# Altium integrated library Res-SMD_V2.IntLib: 2369 symbols (part 17 of 18)
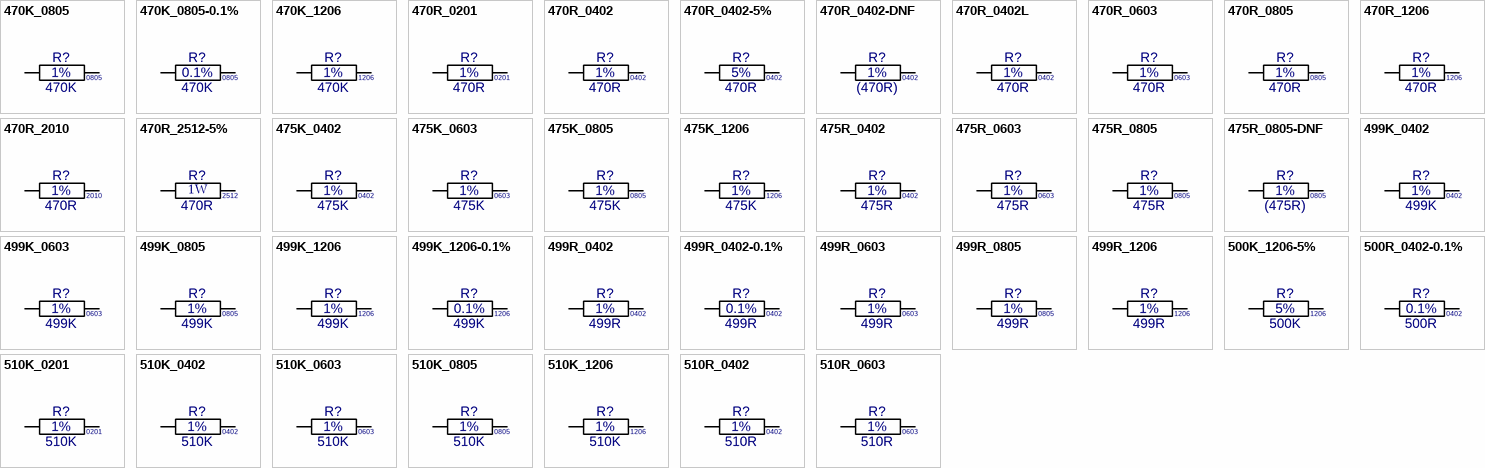
[diagram p75: symbols 470K_0805 to 510R_0603]

## 475R_0805
designator R?, comment value 475R  Tol: 1%  Text1: 0805  (hidden comment: 475R_R0805_1%)
Resistor Chip SMD; Manufacturer: Various; Part Number: 475R 0805 1%; Watt: 125mW; Package: RESC0805X65N; EDM-PN: *; Text2: *; Reutech PN: *; SAAB PN: *; DCE Part No: *
footprint RESC0805X65N (Chip Resistor, 0805, 2-Leads, Body 2.0x1.3mm, IPC Medium Density)
pins: 1, 2

## 475R_0805-DNF
designator R?, comment value (475R)  Tol: 1%  Text1: 0805  (hidden comment: 475R_R0805_1%-DNF)
Resistor Chip SMD - Do not Fit; Manufacturer: Various; Part Number: DNF - 475R 0805 1%; Watt: 125mW; Package: RESC0805X65N; EDM-PN: *; Text2: *; Reutech PN: *; SAAB PN: *; DCE Part No: *
footprint RESC0805X65N (Chip Resistor, 0805, 2-Leads, Body 2.0x1.3mm, IPC Medium Density)
pins: 1, 2

## 499K_0402
designator R?, comment value 499K  Tol: 1%  Text1: 0402  (hidden comment: 499K_R0402_1%)
Resistor Chip SMD; Manufacturer: Various; Part Number: 499K 0402 1%; Watt: 63mW; Package: RESC0402X40N; EDM-PN: *; Text2: *; Reutech PN: *; SAAB PN: *; DCE Part No: *
footprint RESC0402X40N (Chip Resistor, 0402, 2-Leads, Body 1.1x0.5mm, IPC Medium Density)
pins: 1, 2

## 499K_0603
designator R?, comment value 499K  Tol: 1%  Text1: 0603  (hidden comment: 499K_R0603_1%)
Resistor Chip SMD; Manufacturer: Various; Part Number: 499K 0603 1%; Watt: 100mW; Package: RESC0603X60N; EDM-PN: *; Text2: *; Reutech PN: *; SAAB PN: *; DCE Part No: *
footprint RESC0603X60N (Chip Resistor, 0603, 2-Leads, Body 1.6x0.8mm, IPC Medium Density)
pins: 1, 2

## 499K_0805
designator R?, comment value 499K  Tol: 1%  Text1: 0805  (hidden comment: 499K_R0805_1%)
Resistor Chip SMD; Manufacturer: Various; Part Number: 499K 0805 1%; Watt: 125mW; EDM-PN: RES497; Package: RESC0805X65N; Text2: *; Reutech PN: *; SAAB PN: *; DCE Part No: *
footprint RESC0805X65N (Chip Resistor, 0805, 2-Leads, Body 2.0x1.3mm, IPC Medium Density)
pins: 1, 2

## 499K_1206
designator R?, comment value 499K  Tol: 1%  Text1: 1206  (hidden comment: 499K_R1206 1%)
Resistor Chip SMD; Manufacturer: Various; Part Number: 499K 1206 1%; Watt: 250mW; Package: RESC1206X71N; EDM-PN: *; Text2: *; Reutech PN: *; SAAB PN: *; DCE Part No: *
footprint RESC1206X71N (Chip Resistor, 1206, 2-Leads, Body 3.2x1.6mm, IPC Medium Density)
pins: 1, 2

## 499K_1206-0.1%
designator R?, comment value 499K  Tol: 0.1%  Text1: 1206  (hidden comment: 499K_R1206_0.1%)
Resistor Chip SMD; Manufacturer: Various; Part Number: 499K 1206 0.1%; Watt: 250mW; Package: RESC1206X71N; EDM-PN: *; Text2: *; Reutech PN: *; SAAB PN: *; DCE Part No: *
footprint RESC1206X71N (Chip Resistor, 1206, 2-Leads, Body 3.2x1.6mm, IPC Medium Density)
pins: 1, 2

## 499R_0402
designator R?, comment value 499R  Tol: 1%  Text1: 0402  (hidden comment: 499R_R0402_1%)
Resistor Chip SMD; Manufacturer: Various; Part Number: 499R 0402 1%; Watt: 63mW; EDM-PN: RES1082; Package: RESC0402X40N; Text2: *; Reutech PN: *; SAAB PN: *; DCE Part No: *
footprint RESC0402X40N (Chip Resistor, 0402, 2-Leads, Body 1.1x0.5mm, IPC Medium Density)
pins: 1, 2

## 499R_0402-0.1%
designator R?, comment value 499R  Tol: 0.1%  Text1: 0402  (hidden comment: 499R_R0402_0.1%)
Resistor Chip SMD; Manufacturer: Various; Part Number: 499R 0402 0.1%; Watt: 63mW; Package: RESC0402X40N; EDM-PN: *; Text2: *; Reutech PN: *; SAAB PN: *; DCE Part No: *
footprint RESC0402X40N (Chip Resistor, 0402, 2-Leads, Body 1.1x0.5mm, IPC Medium Density)
pins: 1, 2

## 499R_0603
designator R?, comment value 499R  Tol: 1%  Text1: 0603  (hidden comment: 499R_R0603_1%)
Resistor Chip SMD; Manufacturer: Various; Part Number: 499R 0603 1%; Watt: 100mW; Package: RESC0603X60N; EDM-PN: *; Text2: *; Reutech PN: *; SAAB PN: *; DCE Part No: *
footprint RESC0603X60N (Chip Resistor, 0603, 2-Leads, Body 1.6x0.8mm, IPC Medium Density)
pins: 1, 2

## 499R_0805
designator R?, comment value 499R  Tol: 1%  Text1: 0805  (hidden comment: 499R_R0805_1%)
Resistor Chip SMD; Manufacturer: Various; Part Number: 499R 0805 1%; Watt: 125mW; Package: RESC0805X65N; EDM-PN: *; Text2: *; Reutech PN: *; SAAB PN: *; DCE Part No: *
footprint RESC0805X65N (Chip Resistor, 0805, 2-Leads, Body 2.0x1.3mm, IPC Medium Density)
pins: 1, 2

## 499R_1206
designator R?, comment value 499R  Tol: 1%  Text1: 1206  (hidden comment: 499R_R1206_1%)
Resistor Chip SMD; Manufacturer: Various; Part Number: 499R 1206 1%; Watt: 250mW; Package: RESC1206X71N; EDM-PN: *; Text2: *; Reutech PN: *; SAAB PN: *; DCE Part No: *
footprint RESC1206X71N (Chip Resistor, 1206, 2-Leads, Body 3.2x1.6mm, IPC Medium Density)
pins: 1, 2

## 500K_1206-5%
designator R?, comment value 500K  Tol: 5%  Text1: 1206  (hidden comment: 500K_R1206_5%)
Resistor Chip SMD; Manufacturer: Various; Part Number: 500K 1206 5%; Watt: 330mW; Package: RESC1206X71N; EDM-PN: *; Text2: *; Reutech PN: *; SAAB PN: *; DCE Part No: *
footprint RESC1206X71N (Chip Resistor, 1206, 2-Leads, Body 3.2x1.6mm, IPC Medium Density)
pins: 1, 2

## 500R_0402-0.1%
designator R?, comment value 500R  Tol: 0.1%  Text1: 0402  (hidden comment: 500R_R0402_0.1%)
Resistor Chip SMD; Manufacturer: Various; Part Number: 500R 0402 0.1%; Watt: 63mW; Package: RESC0402X40N; EDM-PN: *; Text2: *; Reutech PN: *; SAAB PN: *; DCE Part No: *
footprint RESC0402X40N (Chip Resistor, 0402, 2-Leads, Body 1.1x0.5mm, IPC Medium Density)
pins: 1, 2

## 510K_0201
designator R?, comment value 510K  Tol: 1%  Text1: 0201  (hidden comment: 510K_R0201_1%)
Resistor Chip SMD; Manufacturer: Various; Part Number: 510K 0201 1%; Watt: 31mW; Package: RESC0201X33N; EDM-PN: *; Text2: *; Reutech PN: *; SAAB PN: *; DCE Part No: *
footprint RESC0201X33N (Chip Resistor, 0201, 2-Leads, Body 0.6x0.3mm, IPC Medium Density)
pins: 1, 2

## 510K_0402
designator R?, comment value 510K  Tol: 1%  Text1: 0402  (hidden comment: 510K_R0402_1%)
Resistor Chip SMD; Manufacturer: Various; Part Number: 510K 0402 1%; Watt: 63mW; Package: RESC0402X40N; EDM-PN: *; Text2: *; Reutech PN: *; SAAB PN: *; DCE Part No: *
footprint RESC0402X40N (Chip Resistor, 0402, 2-Leads, Body 1.1x0.5mm, IPC Medium Density)
pins: 1, 2

## 510K_0603
designator R?, comment value 510K  Tol: 1%  Text1: 0603  (hidden comment: 510K_R0603_1%)
Resistor Chip SMD; Manufacturer: Various; Part Number: 510K 0603 1%; Watt: 100mW; Package: RESC0603X60N; EDM-PN: *; Text2: *; Reutech PN: *; SAAB PN: *; DCE Part No: *
footprint RESC0603X60N (Chip Resistor, 0603, 2-Leads, Body 1.6x0.8mm, IPC Medium Density)
pins: 1, 2

## 510K_0805
designator R?, comment value 510K  Tol: 1%  Text1: 0805  (hidden comment: 510K_R0805_1%)
Resistor Chip SMD; Manufacturer: Various; Part Number: 510K 0805 1%; Watt: 125mW; Package: RESC0805X65N; EDM-PN: *; Text2: *; Reutech PN: *; SAAB PN: *; DCE Part No: *
footprint RESC0805X65N (Chip Resistor, 0805, 2-Leads, Body 2.0x1.3mm, IPC Medium Density)
pins: 1, 2

## 510K_1206
designator R?, comment value 510K  Tol: 1%  Text1: 1206  (hidden comment: 510K_R1206_1%)
Resistor Chip SMD; Manufacturer: Various; Part Number: 510K 1206 1%; Watt: 250mW; Package: RESC1206X71N; EDM-PN: *; Text2: *; Reutech PN: *; SAAB PN: *; DCE Part No: *
footprint RESC1206X71N (Chip Resistor, 1206, 2-Leads, Body 3.2x1.6mm, IPC Medium Density)
pins: 1, 2

## 510R_0402
designator R?, comment value 510R  Tol: 1%  Text1: 0402  (hidden comment: 510R_R0402_1%)
Resistor Chip SMD; Manufacturer: Various; Part Number: 510R 0402 1%; Watt: 63mW; EDM-PN: RES1498; Package: RESC0402X40N; Text2: *; Reutech PN: *; SAAB PN: *; DCE Part No: *
footprint RESC0402X40N (Chip Resistor, 0402, 2-Leads, Body 1.1x0.5mm, IPC Medium Density)
pins: 1, 2

## 510R_0603
designator R?, comment value 510R  Tol: 1%  Text1: 0603  (hidden comment: 510R_R0603_1%)
Resistor Chip SMD; Manufacturer: Various; Part Number: 510R 0603 1%; Watt: 100mW; EDM-PN: RES678; Package: RESC0603X60N; Text2: *; Reutech PN: 5905-93-5100; SAAB PN: *; DCE Part No: *
footprint RESC0603X60N (Chip Resistor, 0603, 2-Leads, Body 1.6x0.8mm, IPC Medium Density)
pins: 1, 2

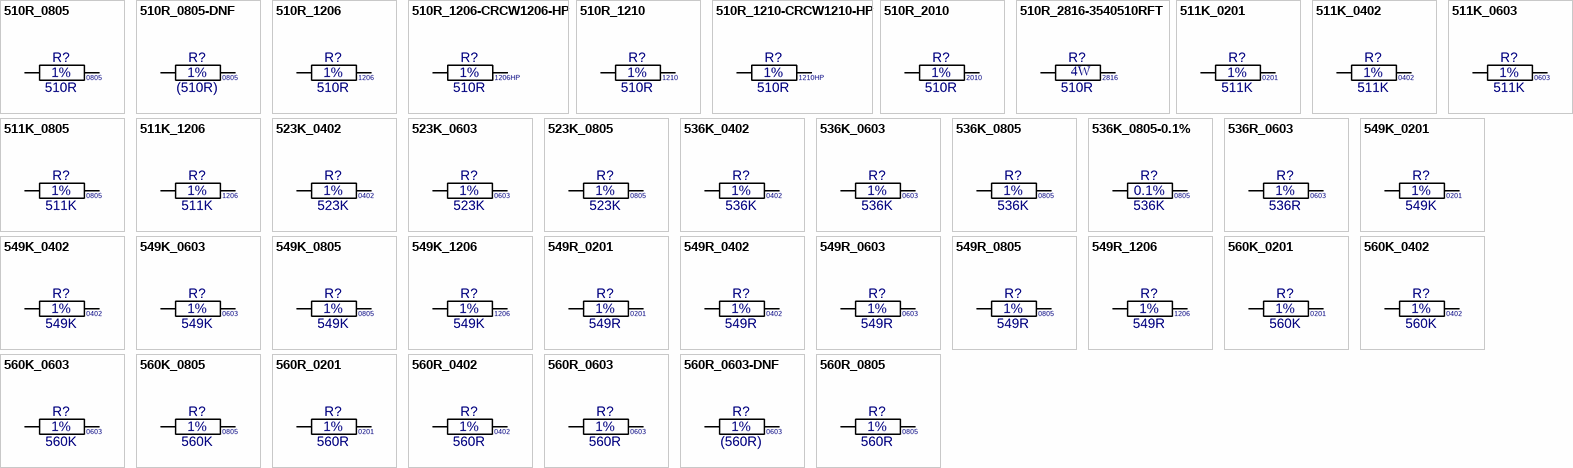
[diagram p54: symbols 510R_0805 to 560R_0805]

## 510R_0805
designator R?, comment value 510R  Tol: 1%  Text1: 0805  (hidden comment: 510R_R0805_1%)
Resistor Chip SMD; Manufacturer: Various; Part Number: 510R 0805 1%; Watt: 125mW; Package: RESC0805X65N; EDM-PN: *; Text2: *; Reutech PN: *; SAAB PN: *; DCE Part No: *
footprint RESC0805X65N (Chip Resistor, 0805, 2-Leads, Body 2.0x1.3mm, IPC Medium Density)
pins: 1, 2

## 510R_0805-DNF
designator R?, comment value (510R)  Tol: 1%  Text1: 0805  (hidden comment: 510R_R0805_1%-DNF)
Resistor Chip SMD - Do not Fit; Manufacturer: Various; Part Number: DNF - 510R 0805 1%; Watt: 125mW; Package: RESC0805X65N; EDM-PN: *; Text2: *; Reutech PN: *; SAAB PN: *; DCE Part No: *
footprint RESC0805X65N (Chip Resistor, 0805, 2-Leads, Body 2.0x1.3mm, IPC Medium Density)
pins: 1, 2

## 510R_1206
designator R?, comment value 510R  Tol: 1%  Text1: 1206  (hidden comment: 510R_R1206_1%)
Resistor Chip SMD; Manufacturer: Various; Part Number: 510R 1206 1%; Watt: 250mW; Package: RESC1206X71N; EDM-PN: *; Text2: *; Reutech PN: *; SAAB PN: *; DCE Part No: *
footprint RESC1206X71N (Chip Resistor, 1206, 2-Leads, Body 3.2x1.6mm, IPC Medium Density)
pins: 1, 2

## 510R_1206-CRCW1206-HP
designator R?, comment value 510R  Tol: 1%  Text1: 1206HP  (hidden comment: 510R_R1206_1%-CRCW1206-HP)
Resistor Chip Pulse Proof High Power Thick Film; Manufacturer: Vishay; Part Number: CRCW1206510RFKEAHP; Watt: 500mW; Package: CRCW1206-HP; EDM-PN: *; Text2: *; Reutech PN: *; SAAB PN: *; DCE Part No: *
footprint CRCW1206-HP (CCRCW1206-HP 3.2x1.6mm, IPC Medium Density)
pins: 1, 2

## 510R_1210
designator R?, comment value 510R  Tol: 1%  Text1: 1210  (hidden comment: 510R_R1210_1%)
Resistor Chip SMD; Manufacturer: Various; Part Number: 510R 1210 1%; Watt: 500mW; Reutech PN: 5905-CR-0043; Package: RESC1210X71N; EDM-PN: *; Text2: *; SAAB PN: *; DCE Part No: *
footprint RESC1210X71N (Chip Resistor, 1210, 2-Leads, Body 3.2x2.5mm, IPC Medium Density)
pins: 1, 2

## 510R_1210-CRCW1210-HP
designator R?, comment value 510R  Tol: 1%  Text1: 1210HP  (hidden comment: 510R_R1210_1%-CRCW1210-HP)
Resistor Chip Pulse Proof High Power Thick Film; Manufacturer: Vishay; Part Number: CRCW1210510RFKEAHP; Watt: 750mW; Package: CRCW1210-HP; EDM-PN: *; Text2: *; Reutech PN: *; SAAB PN: *; DCE Part No: *
footprint CRCW1210-HP (CRCW1210-HP 3.2x2.5mm, IPC Medium Density)
pins: 1, 2

## 510R_2010
designator R?, comment value 510R  Tol: 1%  Text1: 2010  (hidden comment: 510R_R2010_1%)
Resistor Chip SMD; Manufacturer: Various; Part Number: 510R 2010 1%; Watt: 500mW; Package: RESC2010X71N; EDM-PN: *; Text2: *; Reutech PN: 5905-95-5100; SAAB PN: *; DCE Part No: *
footprint RESC2010X71N (Chip Resistor, 2010, 2-Leads, Body 5.0x2.5mm, IPC Medium Density)
pins: 1, 2

## 510R_2816-3540510RFT
designator R?, comment value 510R  Watt: 4W  Text1: 2816  (hidden comment: 3540510RFT)
Resistor High Power Thick Film; Manufacturer: Tyco; Tol: 1%; Part Number: 3540510RFT; Package: RESC2816X47N; EDM-PN: *; Text2: *; Reutech PN: *; SAAB PN: *; DCE Part No: *
footprint RESC2816X47N (Chip Resistor 2816 7.1x4.2mm)
pins: 1, 2

## 511K_0201
designator R?, comment value 511K  Tol: 1%  Text1: 0201  (hidden comment: 511K_R0201_1%)
Resistor Chip SMD; Manufacturer: Various; Part Number: 511K 0201 1%; Watt: 31mW; Package: RESC0201X33N; EDM-PN: *; Text2: *; Reutech PN: *; SAAB PN: *; DCE Part No: *
footprint RESC0201X33N (Chip Resistor, 0201, 2-Leads, Body 0.6x0.3mm, IPC Medium Density)
pins: 1, 2

## 511K_0402
designator R?, comment value 511K  Tol: 1%  Text1: 0402  (hidden comment: 511K_R0402_1%)
Resistor Chip SMD; Manufacturer: Various; Part Number: 511K 0402 1%; Watt: 63mW; Package: RESC0402X40N; EDM-PN: *; Text2: *; Reutech PN: *; SAAB PN: *; DCE Part No: *
footprint RESC0402X40N (Chip Resistor, 0402, 2-Leads, Body 1.1x0.5mm, IPC Medium Density)
pins: 1, 2

## 511K_0603
designator R?, comment value 511K  Tol: 1%  Text1: 0603  (hidden comment: 511K_R0603_1%)
Resistor Chip SMD; Manufacturer: Various; Part Number: 511K 0603 1%; Watt: 100mW; Package: RESC0603X60N; EDM-PN: *; Text2: *; Reutech PN: *; SAAB PN: *; DCE Part No: *
footprint RESC0603X60N (Chip Resistor, 0603, 2-Leads, Body 1.6x0.8mm, IPC Medium Density)
pins: 1, 2

## 511K_0805
designator R?, comment value 511K  Tol: 1%  Text1: 0805  (hidden comment: 511K_R0805_1%)
Resistor Chip SMD; Manufacturer: Various; Part Number: 511K 0805 1%; Watt: 125mW; Package: RESC0805X65N; EDM-PN: *; Text2: *; Reutech PN: *; SAAB PN: *; DCE Part No: *
footprint RESC0805X65N (Chip Resistor, 0805, 2-Leads, Body 2.0x1.3mm, IPC Medium Density)
pins: 1, 2

## 511K_1206
designator R?, comment value 511K  Tol: 1%  Text1: 1206  (hidden comment: 511K_R1206_1%)
Resistor Chip SMD; Manufacturer: Various; Part Number: 511K 1206 1%; Watt: 250mW; Package: RESC1206X71N; EDM-PN: *; Text2: *; Reutech PN: *; SAAB PN: *; DCE Part No: *
footprint RESC1206X71N (Chip Resistor, 1206, 2-Leads, Body 3.2x1.6mm, IPC Medium Density)
pins: 1, 2

## 523K_0402
designator R?, comment value 523K  Tol: 1%  Text1: 0402  (hidden comment: 523K_R0402_1%)
Resistor Chip SMD; Manufacturer: Various; Part Number: 523K 0402 1%; Watt: 63mW; Package: RESC0402X40N; EDM-PN: *; Text2: *; Reutech PN: *; SAAB PN: *; DCE Part No: *
footprint RESC0402X40N (Chip Resistor, 0402, 2-Leads, Body 1.1x0.5mm, IPC Medium Density)
pins: 1, 2

## 523K_0603
designator R?, comment value 523K  Tol: 1%  Text1: 0603  (hidden comment: 523K_R0603_1%)
Resistor Chip SMD; Manufacturer: Various; Part Number: 523K 0603 1%; Watt: 100mW; Package: RESC0603X60N; EDM-PN: *; Text2: *; Reutech PN: *; SAAB PN: *; DCE Part No: *
footprint RESC0603X60N (Chip Resistor, 0603, 2-Leads, Body 1.6x0.8mm, IPC Medium Density)
pins: 1, 2

## 523K_0805
designator R?, comment value 523K  Tol: 1%  Text1: 0805  (hidden comment: 523K_R0805_1%)
Resistor Chip SMD; Manufacturer: Various; Part Number: 523K 0805 1%; Watt: 125mW; Package: RESC0805X65N; EDM-PN: *; Text2: *; Reutech PN: *; SAAB PN: *; DCE Part No: *
footprint RESC0805X65N (Chip Resistor, 0805, 2-Leads, Body 2.0x1.3mm, IPC Medium Density)
pins: 1, 2

## 536K_0402
designator R?, comment value 536K  Tol: 1%  Text1: 0402  (hidden comment: 536K_R0402_1%)
Resistor Chip SMD; Manufacturer: Various; Part Number: 536K 0402 1%; Watt: 63mW; Package: RESC0402X40N; EDM-PN: *; Text2: *; Reutech PN: *; SAAB PN: *; DCE Part No: *
footprint RESC0402X40N (Chip Resistor, 0402, 2-Leads, Body 1.1x0.5mm, IPC Medium Density)
pins: 1, 2

## 536K_0603
designator R?, comment value 536K  Tol: 1%  Text1: 0603  (hidden comment: 536K_R0603_1%)
Resistor Chip SMD; Manufacturer: Various; Part Number: 536K 0603 1%; Watt: 100mW; Package: RESC0603X60N; EDM-PN: *; Text2: *; Reutech PN: *; SAAB PN: *; DCE Part No: *
footprint RESC0603X60N (Chip Resistor, 0603, 2-Leads, Body 1.6x0.8mm, IPC Medium Density)
pins: 1, 2

## 536K_0805
designator R?, comment value 536K  Tol: 1%  Text1: 0805  (hidden comment: 536K_R0805_1%)
Resistor Chip SMD; Manufacturer: Various; Part Number: 536K 0805 1%; Watt: 125mW; Package: RESC0805X65N; EDM-PN: *; Text2: *; Reutech PN: *; SAAB PN: *; DCE Part No: *
footprint RESC0805X65N (Chip Resistor, 0805, 2-Leads, Body 2.0x1.3mm, IPC Medium Density)
pins: 1, 2

## 536K_0805-0.1%
designator R?, comment value 536K  Tol: 0.1%  Text1: 0805  (hidden comment: 536K_R0805_0.1%)
Resistor Chip SMD; Manufacturer: Various; Part Number: 536K 0805 0.1%; Watt: 125mW; Package: RESC0805X65N; EDM-PN: *; Text2: *; Reutech PN: *; SAAB PN: *; DCE Part No: *
footprint RESC0805X65N (Chip Resistor, 0805, 2-Leads, Body 2.0x1.3mm, IPC Medium Density)
pins: 1, 2

## 536R_0603
designator R?, comment value 536R  Tol: 1%  Text1: 0603  (hidden comment: 536R_R0603_1%)
Resistor Chip SMD; Manufacturer: Various; Part Number: 536R 0603 1%; Watt: 100mW; Package: RESC0603X60N; EDM-PN: *; Text2: *; Reutech PN: *; SAAB PN: *; DCE Part No: *
footprint RESC0603X60N (Chip Resistor, 0603, 2-Leads, Body 1.6x0.8mm, IPC Medium Density)
pins: 1, 2

## 549K_0201
designator R?, comment value 549K  Tol: 1%  Text1: 0201  (hidden comment: 549K_R0201_1%)
Resistor Chip SMD; Manufacturer: Various; Part Number: 549K 0201 1%; Watt: 31mW; Package: RESC0201X33N; EDM-PN: *; Text2: *; Reutech PN: *; SAAB PN: *; DCE Part No: *
footprint RESC0201X33N (Chip Resistor, 0201, 2-Leads, Body 0.6x0.3mm, IPC Medium Density)
pins: 1, 2

## 549K_0402
designator R?, comment value 549K  Tol: 1%  Text1: 0402  (hidden comment: 549K_R0402_1%)
Resistor Chip SMD; Manufacturer: Various; Part Number: 549K 0402 1%; Watt: 63mW; Package: RESC0402X40N; EDM-PN: *; Text2: *; Reutech PN: *; SAAB PN: *; DCE Part No: *
footprint RESC0402X40N (Chip Resistor, 0402, 2-Leads, Body 1.1x0.5mm, IPC Medium Density)
pins: 1, 2

## 549K_0603
designator R?, comment value 549K  Tol: 1%  Text1: 0603  (hidden comment: 549K_R0603_1%)
Resistor Chip SMD; Manufacturer: Various; Part Number: 549K 0603 1%; Watt: 100mW; Package: RESC0603X60N; EDM-PN: *; Text2: *; Reutech PN: *; SAAB PN: *; DCE Part No: *
footprint RESC0603X60N (Chip Resistor, 0603, 2-Leads, Body 1.6x0.8mm, IPC Medium Density)
pins: 1, 2

## 549K_0805
designator R?, comment value 549K  Tol: 1%  Text1: 0805  (hidden comment: 549K_R0805_1%)
Resistor Chip SMD; Manufacturer: Various; Part Number: 549K 0805 1%; Watt: 125mW; Package: RESC0805X65N; EDM-PN: *; Text2: *; Reutech PN: *; SAAB PN: *; DCE Part No: *
footprint RESC0805X65N (Chip Resistor, 0805, 2-Leads, Body 2.0x1.3mm, IPC Medium Density)
pins: 1, 2

## 549K_1206
designator R?, comment value 549K  Tol: 1%  Text1: 1206  (hidden comment: 549K_R1206_1%)
Resistor Chip SMD; Manufacturer: Various; Part Number: 549K 1206 1%; Watt: 250mW; Package: RESC1206X71N; EDM-PN: *; Text2: *; Reutech PN: *; SAAB PN: *; DCE Part No: *
footprint RESC1206X71N (Chip Resistor, 1206, 2-Leads, Body 3.2x1.6mm, IPC Medium Density)
pins: 1, 2

## 549R_0201
designator R?, comment value 549R  Tol: 1%  Text1: 0201  (hidden comment: 549R_R0201_1%)
Resistor Chip SMD; Manufacturer: Various; Part Number: 549R 0201 1%; Watt: 31mW; Package: RESC0201X33N; EDM-PN: *; Text2: *; Reutech PN: *; SAAB PN: *; DCE Part No: *
footprint RESC0201X33N (Chip Resistor, 0201, 2-Leads, Body 0.6x0.3mm, IPC Medium Density)
pins: 1, 2

## 549R_0402
designator R?, comment value 549R  Tol: 1%  Text1: 0402  (hidden comment: 549R_R0402_1%)
Resistor Chip SMD; Manufacturer: Various; Part Number: 549R 0402 1%; Watt: 63mW; Package: RESC0402X40N; EDM-PN: *; Text2: *; Reutech PN: *; SAAB PN: *; DCE Part No: *
footprint RESC0402X40N (Chip Resistor, 0402, 2-Leads, Body 1.1x0.5mm, IPC Medium Density)
pins: 1, 2

## 549R_0603
designator R?, comment value 549R  Tol: 1%  Text1: 0603  (hidden comment: 549R_R0603_1%)
Resistor Chip SMD; Manufacturer: Various; Part Number: 549R 0603 1%; Watt: 100mW; Package: RESC0603X60N; EDM-PN: *; Text2: *; Reutech PN: *; SAAB PN: *; DCE Part No: *
footprint RESC0603X60N (Chip Resistor, 0603, 2-Leads, Body 1.6x0.8mm, IPC Medium Density)
pins: 1, 2

## 549R_0805
designator R?, comment value 549R  Tol: 1%  Text1: 0805  (hidden comment: 549R_R0805_1%)
Resistor Chip SMD; Manufacturer: Various; Part Number: 549R 0805 1%; Watt: 125mW; Package: RESC0805X65N; EDM-PN: *; Text2: *; Reutech PN: *; SAAB PN: *; DCE Part No: *
footprint RESC0805X65N (Chip Resistor, 0805, 2-Leads, Body 2.0x1.3mm, IPC Medium Density)
pins: 1, 2

## 549R_1206
designator R?, comment value 549R  Tol: 1%  Text1: 1206  (hidden comment: 549R_R1206_1%)
Resistor Chip SMD; Manufacturer: Various; Part Number: 549R 1206 1%; Watt: 250mW; Package: RESC1206X71N; EDM-PN: *; Text2: *; Reutech PN: *; SAAB PN: *; DCE Part No: *
footprint RESC1206X71N (Chip Resistor, 1206, 2-Leads, Body 3.2x1.6mm, IPC Medium Density)
pins: 1, 2

## 560K_0201
designator R?, comment value 560K  Tol: 1%  Text1: 0201  (hidden comment: 560K_R0201_1%)
Resistor Chip SMD; Manufacturer: Various; Part Number: 560K 0201 1%; Watt: 31mW; Package: RESC0201X33N; EDM-PN: *; Text2: *; Reutech PN: *; SAAB PN: *; DCE Part No: *
footprint RESC0201X33N (Chip Resistor, 0201, 2-Leads, Body 0.6x0.3mm, IPC Medium Density)
pins: 1, 2

## 560K_0402
designator R?, comment value 560K  Tol: 1%  Text1: 0402  (hidden comment: 560K_R0402_1%)
Resistor Chip SMD; Manufacturer: Various; Part Number: 560K 0402 1%; Watt: 63mW; Package: RESC0402X40N; EDM-PN: *; Text2: *; Reutech PN: *; SAAB PN: *; DCE Part No: *
footprint RESC0402X40N (Chip Resistor, 0402, 2-Leads, Body 1.1x0.5mm, IPC Medium Density)
pins: 1, 2

## 560K_0603
designator R?, comment value 560K  Tol: 1%  Text1: 0603  (hidden comment: 560K_R0603_1%)
Resistor Chip SMD; Manufacturer: Various; Part Number: 560K 0603 1%; Watt: 100mW; Package: RESC0603X60N; EDM-PN: *; Text2: *; Reutech PN: 5905-93-5603; SAAB PN: *; DCE Part No: *
footprint RESC0603X60N (Chip Resistor, 0603, 2-Leads, Body 1.6x0.8mm, IPC Medium Density)
pins: 1, 2

## 560K_0805
designator R?, comment value 560K  Tol: 1%  Text1: 0805  (hidden comment: 560K_R0805_1%)
Resistor Chip SMD; Manufacturer: Various; Part Number: 560K 0805 1%; Watt: 125mW; EDM-PN: RES397; Package: RESC0805X65N; Text2: *; Reutech PN: *; SAAB PN: *; DCE Part No: *
footprint RESC0805X65N (Chip Resistor, 0805, 2-Leads, Body 2.0x1.3mm, IPC Medium Density)
pins: 1, 2

## 560R_0201
designator R?, comment value 560R  Tol: 1%  Text1: 0201  (hidden comment: 560R_R0201_1%)
Resistor Chip SMD; Manufacturer: Various; Part Number: 560R 0201 1%; Watt: 31mW; Package: RESC0201X33N; EDM-PN: *; Text2: *; Reutech PN: *; SAAB PN: *; DCE Part No: *
footprint RESC0201X33N (Chip Resistor, 0201, 2-Leads, Body 0.6x0.3mm, IPC Medium Density)
pins: 1, 2

## 560R_0402
designator R?, comment value 560R  Tol: 1%  Text1: 0402  (hidden comment: 560R_R0402_1%)
Resistor Chip SMD; Manufacturer: Various; Part Number: 560R 0402 1%; Watt: 63mW; Package: RESC0402X40N; EDM-PN: *; Text2: *; Reutech PN: *; SAAB PN: *; DCE Part No: *
footprint RESC0402X40N (Chip Resistor, 0402, 2-Leads, Body 1.1x0.5mm, IPC Medium Density)
pins: 1, 2

## 560R_0603
designator R?, comment value 560R  Tol: 1%  Text1: 0603  (hidden comment: 560R_R0603_1%)
Resistor Chip SMD; Manufacturer: Various; Part Number: 560R 0603 1%; Watt: 100mW; Package: RESC0603X60N; EDM-PN: *; Text2: *; Reutech PN: 5905-93-5600; SAAB PN: *; DCE Part No: *
footprint RESC0603X60N (Chip Resistor, 0603, 2-Leads, Body 1.6x0.8mm, IPC Medium Density)
pins: 1, 2

## 560R_0603-DNF
designator R?, comment value (560R)  Tol: 1%  Text1: 0603  (hidden comment: 560R_R0603_1%-DNF)
Resistor Chip SMD - Do not Fit; Manufacturer: Various; Part Number: DNF - 560R 0603 1%; Watt: 100mW; Package: RESC0603X60N; EDM-PN: *; Text2: *; Reutech PN: *; SAAB PN: *; DCE Part No: *
footprint RESC0603X60N (Chip Resistor, 0603, 2-Leads, Body 1.6x0.8mm, IPC Medium Density)
pins: 1, 2

## 560R_0805
designator R?, comment value 560R  Tol: 1%  Text1: 0805  (hidden comment: 560R_R0805_1%)
Resistor Chip SMD; Manufacturer: Various; Part Number: 560R 0805 1%; Watt: 125mW; Package: RESC0805X65N; EDM-PN: *; Text2: *; Reutech PN: *; SAAB PN: *; DCE Part No: *
footprint RESC0805X65N (Chip Resistor, 0805, 2-Leads, Body 2.0x1.3mm, IPC Medium Density)
pins: 1, 2

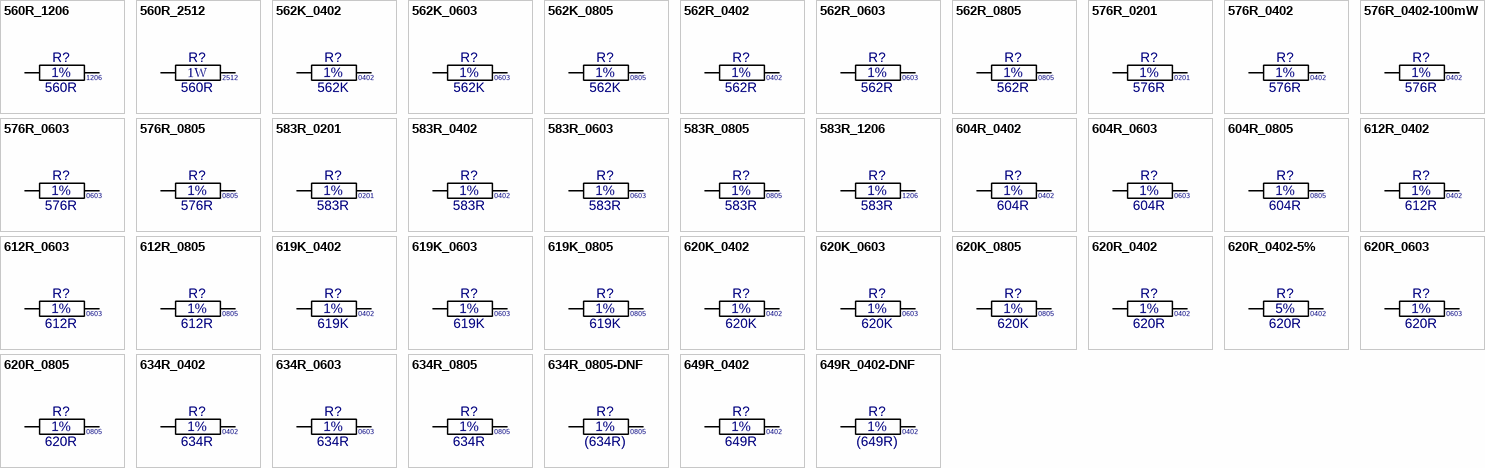
[diagram p55: symbols 560R_1206 to 649R_0402-DNF]

## 560R_1206
designator R?, comment value 560R  Tol: 1%  Text1: 1206  (hidden comment: 560R_R1206_1%)
Resistor Chip SMD; Manufacturer: Various; Part Number: 560R 1206 1%; Watt: 250mW; Package: RESC1206X71N; EDM-PN: *; Text2: *; Reutech PN: *; SAAB PN: *; DCE Part No: *
footprint RESC1206X71N (Chip Resistor, 1206, 2-Leads, Body 3.2x1.6mm, IPC Medium Density)
pins: 1, 2

## 560R_2512
designator R?, comment value 560R  Watt: 1W  Text1: 2512  (hidden comment: 560R_R2512_1%)
Resistor Chip SMD; Manufacturer: Various; Part Number: 560R 2512 1%; Tol: 1%; Package: RESC2512X71N; EDM-PN: *; Text2: *; Reutech PN: *; SAAB PN: *; DCE Part No: *
footprint RESC2512X71N (Chip Resistor, 2512, 2-Leads, Body 6.3x3.2mm, IPC Medium Density)
pins: 1, 2

## 562K_0402
designator R?, comment value 562K  Tol: 1%  Text1: 0402  (hidden comment: 562K_R0402_1%)
Resistor Chip SMD; Manufacturer: Various; Part Number: 562K 0402 1%; Watt: 63mW; Package: RESC0402X40N; EDM-PN: *; Text2: *; Reutech PN: *; SAAB PN: *; DCE Part No: *
footprint RESC0402X40N (Chip Resistor, 0402, 2-Leads, Body 1.1x0.5mm, IPC Medium Density)
pins: 1, 2

## 562K_0603
designator R?, comment value 562K  Tol: 1%  Text1: 0603  (hidden comment: 562K_R0603_1%)
Resistor Chip SMD; Manufacturer: Various; Part Number: 562K 0603 1%; Watt: 100mW; Package: RESC0603X60N; EDM-PN: *; Text2: *; Reutech PN: *; SAAB PN: *; DCE Part No: *
footprint RESC0603X60N (Chip Resistor, 0603, 2-Leads, Body 1.6x0.8mm, IPC Medium Density)
pins: 1, 2

## 562K_0805
designator R?, comment value 562K  Tol: 1%  Text1: 0805  (hidden comment: 562K_R0805_1%)
Resistor Chip SMD; Manufacturer: Various; Part Number: 562K 0805 1%; Watt: 125mW; Package: RESC0805X65N; EDM-PN: *; Text2: *; Reutech PN: *; SAAB PN: *; DCE Part No: *
footprint RESC0805X65N (Chip Resistor, 0805, 2-Leads, Body 2.0x1.3mm, IPC Medium Density)
pins: 1, 2

## 562R_0402
designator R?, comment value 562R  Tol: 1%  Text1: 0402  (hidden comment: 562R_R0402_1%)
Resistor Chip SMD; Manufacturer: Various; Part Number: 562R 0402 1%; Watt: 63mW; Package: RESC0402X40N; EDM-PN: *; Text2: *; Reutech PN: *; SAAB PN: *; DCE Part No: *
footprint RESC0402X40N (Chip Resistor, 0402, 2-Leads, Body 1.1x0.5mm, IPC Medium Density)
pins: 1, 2

## 562R_0603
designator R?, comment value 562R  Tol: 1%  Text1: 0603  (hidden comment: 562R_R0603_1%)
Resistor Chip SMD; Manufacturer: Various; Part Number: 562R 0603 1%; Watt: 100mW; Package: RESC0603X60N; EDM-PN: *; Text2: *; Reutech PN: *; SAAB PN: *; DCE Part No: *
footprint RESC0603X60N (Chip Resistor, 0603, 2-Leads, Body 1.6x0.8mm, IPC Medium Density)
pins: 1, 2

## 562R_0805
designator R?, comment value 562R  Tol: 1%  Text1: 0805  (hidden comment: 562R_R0805_1%)
Resistor Chip SMD; Manufacturer: Various; Part Number: 562R 0805 1%; Watt: 125mW; Package: RESC0805X65N; EDM-PN: *; Text2: *; Reutech PN: *; SAAB PN: *; DCE Part No: *
footprint RESC0805X65N (Chip Resistor, 0805, 2-Leads, Body 2.0x1.3mm, IPC Medium Density)
pins: 1, 2

## 576R_0201
designator R?, comment value 576R  Tol: 1%  Text1: 0201  (hidden comment: 576R_R0201_1%)
Resistor Chip SMD; Manufacturer: Various; Part Number: 576R 0201 1%; Watt: 31mW; Package: RESC0201X33N; EDM-PN: *; Text2: *; Reutech PN: *; SAAB PN: *; DCE Part No: *
footprint RESC0201X33N (Chip Resistor, 0201, 2-Leads, Body 0.6x0.3mm, IPC Medium Density)
pins: 1, 2

## 576R_0402
designator R?, comment value 576R  Tol: 1%  Text1: 0402  (hidden comment: 576R_R0402_1%)
Resistor Chip SMD; Manufacturer: Various; Part Number: 576R 0402 1%; Watt: 63mW; Package: RESC0402X40N; EDM-PN: *; Text2: *; Reutech PN: *; SAAB PN: *; DCE Part No: *
footprint RESC0402X40N (Chip Resistor, 0402, 2-Leads, Body 1.1x0.5mm, IPC Medium Density)
pins: 1, 2

## 576R_0402-100mW
designator R?, comment value 576R  Tol: 1%  Text1: 0402  (hidden comment: 576R_R0402_1% 100mW)
Resistor Chip SMD; Manufacturer: Various; Part Number: 576R 0402 1% 100mW; Watt: 63mW; Package: RESC0402X40N; EDM-PN: *; Text2: *; Reutech PN: *; SAAB PN: *; DCE Part No: *
footprint RESC0402X40N (Chip Resistor, 0402, 2-Leads, Body 1.1x0.5mm, IPC Medium Density)
pins: 1, 2

## 576R_0603
designator R?, comment value 576R  Tol: 1%  Text1: 0603  (hidden comment: 576R_R0603_1%)
Resistor Chip SMD; Manufacturer: Various; Part Number: 576R 0603 1%; Watt: 100mW; Package: RESC0603X60N; EDM-PN: *; Text2: *; Reutech PN: *; SAAB PN: *; DCE Part No: *
footprint RESC0603X60N (Chip Resistor, 0603, 2-Leads, Body 1.6x0.8mm, IPC Medium Density)
pins: 1, 2

## 576R_0805
designator R?, comment value 576R  Tol: 1%  Text1: 0805  (hidden comment: 576R_R0805_1%)
Resistor Chip SMD; Manufacturer: Various; Part Number: 576R 0805 1%; Watt: 125mW; Package: RESC0805X65N; EDM-PN: *; Text2: *; Reutech PN: *; SAAB PN: *; DCE Part No: *
footprint RESC0805X65N (Chip Resistor, 0805, 2-Leads, Body 2.0x1.3mm, IPC Medium Density)
pins: 1, 2

## 583R_0201
designator R?, comment value 583R  Tol: 1%  Text1: 0201  (hidden comment: 583R_R0201_1%)
Resistor Chip SMD; Manufacturer: Various; Part Number: 583R 0201 1%; Watt: 31mW; Package: RESC0201X33N; EDM-PN: *; Text2: *; Reutech PN: *; SAAB PN: *; DCE Part No: *
footprint RESC0201X33N (Chip Resistor, 0201, 2-Leads, Body 0.6x0.3mm, IPC Medium Density)
pins: 1, 2

## 583R_0402
designator R?, comment value 583R  Tol: 1%  Text1: 0402  (hidden comment: 583R_R0402_1%)
Resistor Chip SMD; Manufacturer: Various; Part Number: 583R 0402 1%; Watt: 63mW; Package: RESC0402X40N; EDM-PN: *; Text2: *; Reutech PN: *; SAAB PN: *; DCE Part No: *
footprint RESC0402X40N (Chip Resistor, 0402, 2-Leads, Body 1.1x0.5mm, IPC Medium Density)
pins: 1, 2

## 583R_0603
designator R?, comment value 583R  Tol: 1%  Text1: 0603  (hidden comment: 583R_R0603_1%)
Resistor Chip SMD; Manufacturer: Various; Part Number: 583R 0603 1%; Watt: 100mW; Package: RESC0603X60N; EDM-PN: *; Text2: *; Reutech PN: *; SAAB PN: *; DCE Part No: *
footprint RESC0603X60N (Chip Resistor, 0603, 2-Leads, Body 1.6x0.8mm, IPC Medium Density)
pins: 1, 2

## 583R_0805
designator R?, comment value 583R  Tol: 1%  Text1: 0805  (hidden comment: 583R_R0805_1%)
Resistor Chip SMD; Manufacturer: Various; Part Number: 583R 0805 1%; Watt: 125mW; Package: RESC0805X65N; EDM-PN: *; Text2: *; Reutech PN: *; SAAB PN: *; DCE Part No: *
footprint RESC0805X65N (Chip Resistor, 0805, 2-Leads, Body 2.0x1.3mm, IPC Medium Density)
pins: 1, 2

## 583R_1206
designator R?, comment value 583R  Tol: 1%  Text1: 1206  (hidden comment: 583R_R1206_1%)
Resistor Chip SMD; Manufacturer: Various; Part Number: 583R 1206 1%; Watt: 250mW; Package: RESC1206X71N; EDM-PN: *; Text2: *; Reutech PN: *; SAAB PN: *; DCE Part No: *
footprint RESC1206X71N (Chip Resistor, 1206, 2-Leads, Body 3.2x1.6mm, IPC Medium Density)
pins: 1, 2

## 604R_0402
designator R?, comment value 604R  Tol: 1%  Text1: 0402  (hidden comment: 604R_R0402_1%)
Resistor Chip SMD; Manufacturer: Various; Part Number: 604R 0402 1%; Watt: 63mW; Package: RESC0402X40N; EDM-PN: *; Text2: *; Reutech PN: *; SAAB PN: *; DCE Part No: *
footprint RESC0402X40N (Chip Resistor, 0402, 2-Leads, Body 1.1x0.5mm, IPC Medium Density)
pins: 1, 2

## 604R_0603
designator R?, comment value 604R  Tol: 1%  Text1: 0603  (hidden comment: 604R_R0603_1%)
Resistor Chip SMD; Manufacturer: Various; Part Number: 604R 0603 1%; Watt: 100mW; Package: RESC0603X60N; EDM-PN: *; Text2: *; Reutech PN: *; SAAB PN: *; DCE Part No: *
footprint RESC0603X60N (Chip Resistor, 0603, 2-Leads, Body 1.6x0.8mm, IPC Medium Density)
pins: 1, 2

## 604R_0805
designator R?, comment value 604R  Tol: 1%  Text1: 0805  (hidden comment: 604R_R0805_1%)
Resistor Chip SMD; Manufacturer: Various; Part Number: 604R 0805 1%; Watt: 125mW; Package: RESC0805X65N; EDM-PN: *; Text2: *; Reutech PN: *; SAAB PN: *; DCE Part No: *
footprint RESC0805X65N (Chip Resistor, 0805, 2-Leads, Body 2.0x1.3mm, IPC Medium Density)
pins: 1, 2

## 612R_0402
designator R?, comment value 612R  Tol: 1%  Text1: 0402  (hidden comment: 612R_R0402_1%)
Resistor Chip SMD; Manufacturer: Various; Part Number: 612R 0402 1%; Watt: 63mW; Package: RESC0402X40N; EDM-PN: *; Text2: *; Reutech PN: *; SAAB PN: *; DCE Part No: *
footprint RESC0402X40N (Chip Resistor, 0402, 2-Leads, Body 1.1x0.5mm, IPC Medium Density)
pins: 1, 2

## 612R_0603
designator R?, comment value 612R  Tol: 1%  Text1: 0603  (hidden comment: 612R_R0603_1%)
Resistor Chip SMD; Manufacturer: Various; Part Number: 612R 0603 1%; Watt: 100mW; EDM-PN: RES1399; Package: RESC0603X60N; Text2: *; Reutech PN: *; SAAB PN: *; DCE Part No: *
footprint RESC0603X60N (Chip Resistor, 0603, 2-Leads, Body 1.6x0.8mm, IPC Medium Density)
pins: 1, 2

## 612R_0805
designator R?, comment value 612R  Tol: 1%  Text1: 0805  (hidden comment: 612R_R0805_1%)
Resistor Chip SMD; Manufacturer: Various; Part Number: 612R 0805 1%; Watt: 125mW; Package: RESC0805X65N; EDM-PN: *; Text2: *; Reutech PN: *; SAAB PN: *; DCE Part No: *
footprint RESC0805X65N (Chip Resistor, 0805, 2-Leads, Body 2.0x1.3mm, IPC Medium Density)
pins: 1, 2

## 619K_0402
designator R?, comment value 619K  Tol: 1%  Text1: 0402  (hidden comment: 619K_R0402_1%)
Resistor Chip SMD; Manufacturer: Various; Part Number: 619K 0402 1%; Watt: 63mW; Package: RESC0402X40N; EDM-PN: *; Text2: *; Reutech PN: *; SAAB PN: *; DCE Part No: *
footprint RESC0402X40N (Chip Resistor, 0402, 2-Leads, Body 1.1x0.5mm, IPC Medium Density)
pins: 1, 2

## 619K_0603
designator R?, comment value 619K  Tol: 1%  Text1: 0603  (hidden comment: 619K_R0603_1%)
Resistor Chip SMD; Manufacturer: Various; Part Number: 619K 0603 1%; Watt: 100mW; Package: RESC0603X60N; EDM-PN: *; Text2: *; Reutech PN: *; SAAB PN: *; DCE Part No: *
footprint RESC0603X60N (Chip Resistor, 0603, 2-Leads, Body 1.6x0.8mm, IPC Medium Density)
pins: 1, 2

## 619K_0805
designator R?, comment value 619K  Tol: 1%  Text1: 0805  (hidden comment: 619K_R0805_1%)
Resistor Chip SMD; Manufacturer: Various; Part Number: 619K 0805 1%; Watt: 125mW; Package: RESC0805X65N; EDM-PN: *; Text2: *; Reutech PN: *; SAAB PN: *; DCE Part No: *
footprint RESC0805X65N (Chip Resistor, 0805, 2-Leads, Body 2.0x1.3mm, IPC Medium Density)
pins: 1, 2

## 620K_0402
designator R?, comment value 620K  Tol: 1%  Text1: 0402  (hidden comment: 620K_R0402_1%)
Resistor Chip SMD; Manufacturer: Various; Part Number: 620K 0402 1%; Watt: 63mW; Package: RESC0402X40N; EDM-PN: *; Text2: *; Reutech PN: *; SAAB PN: *; DCE Part No: *
footprint RESC0402X40N (Chip Resistor, 0402, 2-Leads, Body 1.1x0.5mm, IPC Medium Density)
pins: 1, 2

## 620K_0603
designator R?, comment value 620K  Tol: 1%  Text1: 0603  (hidden comment: 620K_R0603_1%)
Resistor Chip SMD; Manufacturer: Various; Part Number: 620K 0603 1%; Watt: 100mW; Package: RESC0603X60N; EDM-PN: *; Text2: *; Reutech PN: 5905-93-6203; SAAB PN: *; DCE Part No: *
footprint RESC0603X60N (Chip Resistor, 0603, 2-Leads, Body 1.6x0.8mm, IPC Medium Density)
pins: 1, 2

## 620K_0805
designator R?, comment value 620K  Tol: 1%  Text1: 0805  (hidden comment: 620K_R0805_1%)
Resistor Chip SMD; Manufacturer: Various; Part Number: 620K 0805 1%; Watt: 125mW; Package: RESC0805X65N; EDM-PN: *; Text2: *; Reutech PN: *; SAAB PN: *; DCE Part No: *
footprint RESC0805X65N (Chip Resistor, 0805, 2-Leads, Body 2.0x1.3mm, IPC Medium Density)
pins: 1, 2

## 620R_0402
designator R?, comment value 620R  Tol: 1%  Text1: 0402  (hidden comment: 620R_R0402_1%)
Resistor Chip SMD; Manufacturer: Various; Part Number: 620R 0402 1%; Watt: 63mW; Package: RESC0402X40N; EDM-PN: *; Text2: *; Reutech PN: *; SAAB PN: *; DCE Part No: *
footprint RESC0402X40N (Chip Resistor, 0402, 2-Leads, Body 1.1x0.5mm, IPC Medium Density)
pins: 1, 2

## 620R_0402-5%
designator R?, comment value 620R  Tol: 5%  Text1: 0402  (hidden comment: 620R_R0402_5%)
Resistor Chip SMD; Manufacturer: Various; Part Number: 620R 0402 5%; Watt: 63mW; Package: RESC0402X40N; EDM-PN: *; Text2: *; Reutech PN: *; SAAB PN: *; DCE Part No: *
footprint RESC0402X40N (Chip Resistor, 0402, 2-Leads, Body 1.1x0.5mm, IPC Medium Density)
pins: 1, 2

## 620R_0603
designator R?, comment value 620R  Tol: 1%  Text1: 0603  (hidden comment: 620R_R0603_1%)
Resistor Chip SMD; Manufacturer: Various; Part Number: 620R 0603 1%; Watt: 100mW; EDM-PN: RES667; Package: RESC0603X60N; Text2: *; Reutech PN: 5905-93-6200; SAAB PN: *; DCE Part No: *
footprint RESC0603X60N (Chip Resistor, 0603, 2-Leads, Body 1.6x0.8mm, IPC Medium Density)
pins: 1, 2

## 620R_0805
designator R?, comment value 620R  Tol: 1%  Text1: 0805  (hidden comment: 620R_R0805_1%)
Resistor Chip SMD; Manufacturer: Various; Part Number: 620R 0805 1%; Watt: 125mW; Package: RESC0805X65N; EDM-PN: *; Text2: *; Reutech PN: *; SAAB PN: *; DCE Part No: *
footprint RESC0805X65N (Chip Resistor, 0805, 2-Leads, Body 2.0x1.3mm, IPC Medium Density)
pins: 1, 2

## 634R_0402
designator R?, comment value 634R  Tol: 1%  Text1: 0402  (hidden comment: 634R_R0402_1%)
Resistor Chip SMD; Manufacturer: Various; Part Number: 634R 0402 1%; Watt: 63mW; Package: RESC0402X40N; EDM-PN: *; Text2: *; Reutech PN: *; SAAB PN: *; DCE Part No: *
footprint RESC0402X40N (Chip Resistor, 0402, 2-Leads, Body 1.1x0.5mm, IPC Medium Density)
pins: 1, 2

## 634R_0603
designator R?, comment value 634R  Tol: 1%  Text1: 0603  (hidden comment: 634R_R0603_1%)
Resistor Chip SMD; Manufacturer: Various; Part Number: 634R 0603 1%; Watt: 100mW; Package: RESC0603X60N; Text2: *; Reutech PN: *; SAAB PN: *; DCE Part No: *
footprint RESC0603X60N (Chip Resistor, 0603, 2-Leads, Body 1.6x0.8mm, IPC Medium Density)
pins: 1, 2

## 634R_0805
designator R?, comment value 634R  Tol: 1%  Text1: 0805  (hidden comment: 634R_R0805_1%)
Resistor Chip SMD; Manufacturer: Various; Part Number: 634R 0805 1%; Watt: 125mW; Package: RESC0805X65N; EDM-PN: *; Text2: *; Reutech PN: *; SAAB PN: *; DCE Part No: *
footprint RESC0805X65N (Chip Resistor, 0805, 2-Leads, Body 2.0x1.3mm, IPC Medium Density)
pins: 1, 2

## 634R_0805-DNF
designator R?, comment value (634R)  Tol: 1%  Text1: 0805  (hidden comment: 634R_R0805_1%-DNF)
Resistor Chip SMD - DNF; Manufacturer: Various; Part Number: DNF634R 0805 1%; Watt: 125mW; Package: RESC0805X65N; EDM-PN: *; Text2: *; Reutech PN: *; SAAB PN: *; DCE Part No: *
footprint RESC0805X65N (Chip Resistor, 0805, 2-Leads, Body 2.0x1.3mm, IPC Medium Density)
pins: 1, 2

## 649R_0402
designator R?, comment value 649R  Tol: 1%  Text1: 0402  (hidden comment: 649R_R0402_1%)
Resistor Chip SMD; Manufacturer: Various; Part Number: 649R 0402 1%; Watt: 63mW; Package: RESC0402X40N; EDM-PN: *; Text2: *; Reutech PN: *; SAAB PN: *; DCE Part No: *
footprint RESC0402X40N (Chip Resistor, 0402, 2-Leads, Body 1.1x0.5mm, IPC Medium Density)
pins: 1, 2

## 649R_0402-DNF
designator R?, comment value (649R)  Tol: 1%  Text1: 0402  (hidden comment: 649R_R0402_1%-DNF)
Resistor Chip SMD - Do not Fit; Manufacturer: Various; Part Number: DNF - 649R 0402 1%; Watt: 63mW; Package: RESC0402X40N; EDM-PN: *; Text2: *; Reutech PN: *; SAAB PN: *; DCE Part No: *
footprint RESC0402X40N (Chip Resistor, 0402, 2-Leads, Body 1.1x0.5mm, IPC Medium Density)
pins: 1, 2

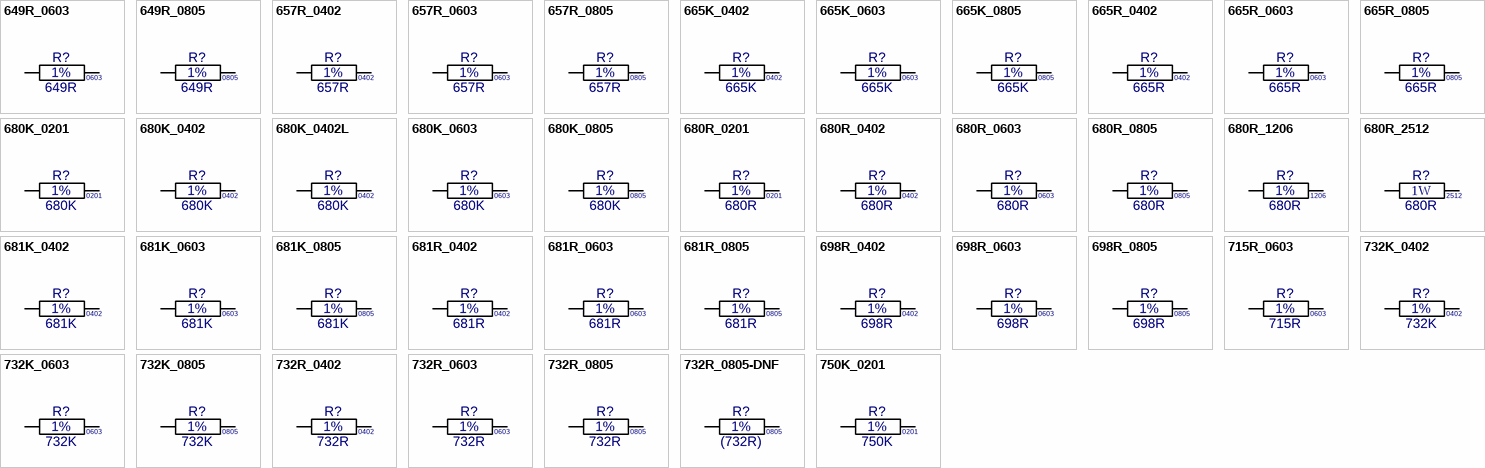
[diagram p56: symbols 649R_0603 to 750K_0201]

## 649R_0603
designator R?, comment value 649R  Tol: 1%  Text1: 0603  (hidden comment: 649R_R0603_1%)
Resistor Chip SMD; Manufacturer: Various; Part Number: 649R 0603 1%; Watt: 100mW; Package: RESC0603X60N; Text2: *; Reutech PN: *; SAAB PN: *; DCE Part No: *
footprint RESC0603X60N (Chip Resistor, 0603, 2-Leads, Body 1.6x0.8mm, IPC Medium Density)
pins: 1, 2

## 649R_0805
designator R?, comment value 649R  Tol: 1%  Text1: 0805  (hidden comment: 649R_R0805_1%)
Resistor Chip SMD; Manufacturer: Various; Part Number: 649R 0805 1%; Watt: 125mW; Package: RESC0805X65N; EDM-PN: *; Text2: *; Reutech PN: *; SAAB PN: *; DCE Part No: *
footprint RESC0805X65N (Chip Resistor, 0805, 2-Leads, Body 2.0x1.3mm, IPC Medium Density)
pins: 1, 2

## 657R_0402
designator R?, comment value 657R  Tol: 1%  Text1: 0402  (hidden comment: 657R_R0402_1%)
Resistor Chip SMD; Manufacturer: Various; Part Number: 657R 0402 1%; Watt: 63mW; Package: RESC0402X40N; EDM-PN: *; Text2: *; Reutech PN: *; SAAB PN: *; DCE Part No: *
footprint RESC0402X40N (Chip Resistor, 0402, 2-Leads, Body 1.1x0.5mm, IPC Medium Density)
pins: 1, 2

## 657R_0603
designator R?, comment value 657R  Tol: 1%  Text1: 0603  (hidden comment: 657R_R0603_1%)
Resistor Chip SMD; Manufacturer: Various; Part Number: 657R 0603 1%; Watt: 100mW; Package: RESC0603X60N; Text2: *; Reutech PN: *; SAAB PN: *; DCE Part No: *
footprint RESC0603X60N (Chip Resistor, 0603, 2-Leads, Body 1.6x0.8mm, IPC Medium Density)
pins: 1, 2

## 657R_0805
designator R?, comment value 657R  Tol: 1%  Text1: 0805  (hidden comment: 657R_R0805_1%)
Resistor Chip SMD; Manufacturer: Various; Part Number: 657R 0805 1%; Watt: 125mW; Package: RESC0805X65N; EDM-PN: *; Text2: *; Reutech PN: *; SAAB PN: *; DCE Part No: *
footprint RESC0805X65N (Chip Resistor, 0805, 2-Leads, Body 2.0x1.3mm, IPC Medium Density)
pins: 1, 2

## 665K_0402
designator R?, comment value 665K  Tol: 1%  Text1: 0402  (hidden comment: 665K_R0402_1%)
Resistor Chip SMD; Manufacturer: Various; Part Number: 665K 0402 1%; Watt: 63mW; Package: RESC0402X40N; EDM-PN: *; Text2: *; Reutech PN: *; SAAB PN: *; DCE Part No: *
footprint RESC0402X40N (Chip Resistor, 0402, 2-Leads, Body 1.1x0.5mm, IPC Medium Density)
pins: 1, 2

## 665K_0603
designator R?, comment value 665K  Tol: 1%  Text1: 0603  (hidden comment: 665K_R0603_1%)
Resistor Chip SMD; Manufacturer: Various; Part Number: 665K 0603 1%; Watt: 100mW; Package: RESC0603X60N; Text2: *; Reutech PN: *; SAAB PN: *; DCE Part No: *
footprint RESC0603X60N (Chip Resistor, 0603, 2-Leads, Body 1.6x0.8mm, IPC Medium Density)
pins: 1, 2

## 665K_0805
designator R?, comment value 665K  Tol: 1%  Text1: 0805  (hidden comment: 665K_R0805_1%)
Resistor Chip SMD; Manufacturer: Various; Part Number: 665K 0805 1%; Watt: 125mW; Package: RESC0805X65N; EDM-PN: *; Text2: *; Reutech PN: *; SAAB PN: *; DCE Part No: *
footprint RESC0805X65N (Chip Resistor, 0805, 2-Leads, Body 2.0x1.3mm, IPC Medium Density)
pins: 1, 2

## 665R_0402
designator R?, comment value 665R  Tol: 1%  Text1: 0402  (hidden comment: 665R_R0402_1%)
Resistor Chip SMD; Manufacturer: Various; Part Number: 665R 0402 1%; Watt: 63mW; Package: RESC0402X40N; EDM-PN: *; Text2: *; Reutech PN: *; SAAB PN: *; DCE Part No: *
footprint RESC0402X40N (Chip Resistor, 0402, 2-Leads, Body 1.1x0.5mm, IPC Medium Density)
pins: 1, 2

## 665R_0603
designator R?, comment value 665R  Tol: 1%  Text1: 0603  (hidden comment: 665R_R0603_1%)
Resistor Chip SMD; Manufacturer: Various; Part Number: 665R 0603 1%; Watt: 100mW; Package: RESC0603X60N; Text2: *; Reutech PN: *; SAAB PN: *; DCE Part No: *
footprint RESC0603X60N (Chip Resistor, 0603, 2-Leads, Body 1.6x0.8mm, IPC Medium Density)
pins: 1, 2

## 665R_0805
designator R?, comment value 665R  Tol: 1%  Text1: 0805  (hidden comment: 665R_R0805_1%)
Resistor Chip SMD; Manufacturer: Various; Part Number: 665R 0805 1%; Watt: 125mW; Package: RESC0805X65N; EDM-PN: *; Text2: *; Reutech PN: *; SAAB PN: *; DCE Part No: *
footprint RESC0805X65N (Chip Resistor, 0805, 2-Leads, Body 2.0x1.3mm, IPC Medium Density)
pins: 1, 2

## 680K_0201
designator R?, comment value 680K  Tol: 1%  Text1: 0201  (hidden comment: 680K_R0201_1%)
Resistor Chip SMD; Manufacturer: Various; Part Number: 680K 0201 1%; Watt: 31mW; Package: RESC0201X33N; EDM-PN: *; Text2: *; Reutech PN: *; SAAB PN: *; DCE Part No: *
footprint RESC0201X33N (Chip Resistor, 0201, 2-Leads, Body 0.6x0.3mm, IPC Medium Density)
pins: 1, 2

## 680K_0402
designator R?, comment value 680K  Tol: 1%  Text1: 0402  (hidden comment: 680K_R0402_1%)
Resistor Chip SMD; Manufacturer: Various; Part Number: 680K 0402 1%; DCE Part No: 7189; Watt: 63mW; Package: RESC0402X40N; EDM-PN: *; Text2: *; Reutech PN: *; SAAB PN: *
footprint RESC0402X40N (Chip Resistor, 0402, 2-Leads, Body 1.1x0.5mm, IPC Medium Density)
pins: 1, 2

## 680K_0402L
designator R?, comment value 680K  Tol: 1%  Text1: 0402  (hidden comment: 680K_R0402_1%)
Resistor Chip SMD; Manufacturer: Various; Part Number: 680K 0402 1%; DCE Part No: 7189; Watt: 63mW; Package: RESC0402X40L; EDM-PN: *; Text2: *; Reutech PN: *; SAAB PN: *
footprint RESC0402X40L (Chip Resistor, 0402, 2-Leads, Body 1.1x0.5mm, IPC High Density)
pins: 1, 2

## 680K_0603
designator R?, comment value 680K  Tol: 1%  Text1: 0603  (hidden comment: 680K_R0603_1%)
Resistor Chip SMD; Manufacturer: Various; Part Number: 680K 0603 1%; Watt: 100mW; Package: RESC0603X60N; EDM-PN: *; Text2: *; Reutech PN: *; SAAB PN: *; DCE Part No: *
footprint RESC0603X60N (Chip Resistor, 0603, 2-Leads, Body 1.6x0.8mm, IPC Medium Density)
pins: 1, 2

## 680K_0805
designator R?, comment value 680K  Tol: 1%  Text1: 0805  (hidden comment: 680K_R0805_1%)
Resistor Chip SMD; Manufacturer: Various; Part Number: 680K 0805 1%; Watt: 125mW; Package: RESC0805X65N; EDM-PN: *; Text2: *; Reutech PN: *; SAAB PN: *; DCE Part No: *
footprint RESC0805X65N (Chip Resistor, 0805, 2-Leads, Body 2.0x1.3mm, IPC Medium Density)
pins: 1, 2

## 680R_0201
designator R?, comment value 680R  Tol: 1%  Text1: 0201  (hidden comment: 680R_R0201_1%)
Resistor Chip SMD; Manufacturer: Various; Part Number: 680R 0201 1%; Watt: 31mW; Package: RESC0201X33N; EDM-PN: *; Text2: *; Reutech PN: *; SAAB PN: *; DCE Part No: *
footprint RESC0201X33N (Chip Resistor, 0201, 2-Leads, Body 0.6x0.3mm, IPC Medium Density)
pins: 1, 2

## 680R_0402
designator R?, comment value 680R  Tol: 1%  Text1: 0402  (hidden comment: 680R_R0402_1%)
Resistor Chip SMD; Manufacturer: Various; Part Number: 680R 0402 1%; Watt: 63mW; EDM-PN: RES1495; Package: RESC0402X40N; Text2: *; Reutech PN: *; SAAB PN: *; DCE Part No: *
footprint RESC0402X40N (Chip Resistor, 0402, 2-Leads, Body 1.1x0.5mm, IPC Medium Density)
pins: 1, 2

## 680R_0603
designator R?, comment value 680R  Tol: 1%  Text1: 0603  (hidden comment: 680R_R0603_1%)
Resistor Chip SMD; Manufacturer: Various; Part Number: 680R 0603 1%; Watt: 100mW; EDM-PN: RES368; Package: RESC0603X60N; Text2: *; Reutech PN: 5905-93-6800; SAAB PN: *; DCE Part No: *
footprint RESC0603X60N (Chip Resistor, 0603, 2-Leads, Body 1.6x0.8mm, IPC Medium Density)
pins: 1, 2

## 680R_0805
designator R?, comment value 680R  Tol: 1%  Text1: 0805  (hidden comment: 680R_R0805_1%)
Resistor Chip SMD; Manufacturer: Various; Part Number: 680R 0805 1%; Watt: 125mW; Package: RESC0805X65N; EDM-PN: *; Text2: *; Reutech PN: *; SAAB PN: *; DCE Part No: *
footprint RESC0805X65N (Chip Resistor, 0805, 2-Leads, Body 2.0x1.3mm, IPC Medium Density)
pins: 1, 2

## 680R_1206
designator R?, comment value 680R  Tol: 1%  Text1: 1206  (hidden comment: 680R_R1206_1%)
Resistor Chip SMD; Manufacturer: Various; Part Number: 680R 1206 1%; Watt: 250mW; Package: RESC1206X71N; EDM-PN: *; Text2: *; Reutech PN: *; SAAB PN: *; DCE Part No: *
footprint RESC1206X71N (Chip Resistor, 1206, 2-Leads, Body 3.2x1.6mm, IPC Medium Density)
pins: 1, 2

## 680R_2512
designator R?, comment value 680R  Watt: 1W  Text1: 2512  (hidden comment: 680R_R2512_1%)
Resistor Chip SMD; Manufacturer: Various; Part Number: 680R 2512 1%; Tol: 1%; Package: RESC2512X71N; EDM-PN: *; Text2: *; Reutech PN: *; SAAB PN: *; DCE Part No: *
footprint RESC2512X71N (Chip Resistor, 2512, 2-Leads, Body 6.3x3.2mm, IPC Medium Density)
pins: 1, 2

## 681K_0402
designator R?, comment value 681K  Tol: 1%  Text1: 0402  (hidden comment: 681K_R0402_1%)
Resistor Chip SMD; Manufacturer: Various; Part Number: 681K 0402 1%; Watt: 63mW; Package: RESC0402X40N; EDM-PN: *; Text2: *; Reutech PN: *; SAAB PN: *; DCE Part No: *
footprint RESC0402X40N (Chip Resistor, 0402, 2-Leads, Body 1.1x0.5mm, IPC Medium Density)
pins: 1, 2

## 681K_0603
designator R?, comment value 681K  Tol: 1%  Text1: 0603  (hidden comment: 681K_R0603_1%)
Resistor Chip SMD; Manufacturer: Various; Part Number: 681K 0603 1%; Watt: 100mW; Package: RESC0603X60N; EDM-PN: *; Text2: *; Reutech PN: *; SAAB PN: *; DCE Part No: *
footprint RESC0603X60N (Chip Resistor, 0603, 2-Leads, Body 1.6x0.8mm, IPC Medium Density)
pins: 1, 2

## 681K_0805
designator R?, comment value 681K  Tol: 1%  Text1: 0805  (hidden comment: 681K_R0805_1%)
Resistor Chip SMD; Manufacturer: Various; Part Number: 681K 0805 1%; Watt: 125mW; Package: RESC0805X65N; EDM-PN: *; Text2: *; Reutech PN: *; SAAB PN: *; DCE Part No: *
footprint RESC0805X65N (Chip Resistor, 0805, 2-Leads, Body 2.0x1.3mm, IPC Medium Density)
pins: 1, 2

## 681R_0402
designator R?, comment value 681R  Tol: 1%  Text1: 0402  (hidden comment: 681R_R0402_1%)
Resistor Chip SMD; Manufacturer: Various; Part Number: 681R 0402 1%; Watt: 63mW; Package: RESC0402X40N; EDM-PN: *; Text2: *; Reutech PN: *; SAAB PN: *; DCE Part No: *
footprint RESC0402X40N (Chip Resistor, 0402, 2-Leads, Body 1.1x0.5mm, IPC Medium Density)
pins: 1, 2

## 681R_0603
designator R?, comment value 681R  Tol: 1%  Text1: 0603  (hidden comment: 681R_R0603_1%)
Resistor Chip SMD; Manufacturer: Various; Part Number: 681R 0603 1%; Watt: 100mW; Package: RESC0603X60N; EDM-PN: *; Text2: *; Reutech PN: *; SAAB PN: *; DCE Part No: *
footprint RESC0603X60N (Chip Resistor, 0603, 2-Leads, Body 1.6x0.8mm, IPC Medium Density)
pins: 1, 2

## 681R_0805
designator R?, comment value 681R  Tol: 1%  Text1: 0805  (hidden comment: 681R_R0805_1%)
Resistor Chip SMD; Manufacturer: Various; Part Number: 681R 0805 1%; Watt: 125mW; Package: RESC0805X65N; EDM-PN: *; Text2: *; Reutech PN: *; SAAB PN: *; DCE Part No: *
footprint RESC0805X65N (Chip Resistor, 0805, 2-Leads, Body 2.0x1.3mm, IPC Medium Density)
pins: 1, 2

## 698R_0402
designator R?, comment value 698R  Tol: 1%  Text1: 0402  (hidden comment: 698R_R0402_1%)
Resistor Chip SMD; Manufacturer: Various; Part Number: 698R 0402 1%; Watt: 63mW; Package: RESC0402X40N; EDM-PN: *; Text2: *; Reutech PN: *; SAAB PN: *; DCE Part No: *
footprint RESC0402X40N (Chip Resistor, 0402, 2-Leads, Body 1.1x0.5mm, IPC Medium Density)
pins: 1, 2

## 698R_0603
designator R?, comment value 698R  Tol: 1%  Text1: 0603  (hidden comment: 698R_R0603_1%)
Resistor Chip SMD; Manufacturer: Various; Part Number: 698R 0603 1%; Watt: 100mW; Package: RESC0603X60N; EDM-PN: *; Text2: *; Reutech PN: *; SAAB PN: *; DCE Part No: *
footprint RESC0603X60N (Chip Resistor, 0603, 2-Leads, Body 1.6x0.8mm, IPC Medium Density)
pins: 1, 2

## 698R_0805
designator R?, comment value 698R  Tol: 1%  Text1: 0805  (hidden comment: 698R_R0805_1%)
Resistor Chip SMD; Manufacturer: Various; Part Number: 698R 0805 1%; Watt: 125mW; Package: RESC0805X65N; EDM-PN: *; Text2: *; Reutech PN: *; SAAB PN: *; DCE Part No: *
footprint RESC0805X65N (Chip Resistor, 0805, 2-Leads, Body 2.0x1.3mm, IPC Medium Density)
pins: 1, 2

## 715R_0603
designator R?, comment value 715R  Tol: 1%  Text1: 0603  (hidden comment: 715R_R0603_1%)
Resistor Chip SMD; Manufacturer: Various; Part Number: 715R 0603 1%; Watt: 100mW; Package: RESC0603X60N; EDM-PN: *; Text2: *; Reutech PN: *; SAAB PN: *; DCE Part No: *
footprint RESC0603X60N (Chip Resistor, 0603, 2-Leads, Body 1.6x0.8mm, IPC Medium Density)
pins: 1, 2